# Altium footprint library PcbLib.PcbLib: 27 footprints (part 1 of 2)
Each footprint in its own frame and in the unit in brackets; x right, y up, seen from the top. Pads: shape width x height; smd on the part's side, far side on the other; paste and mask are expansions set on the pad; w line width, h text height; cw(c..) or ccw(c..) is an arc to the next point about the centre after c.
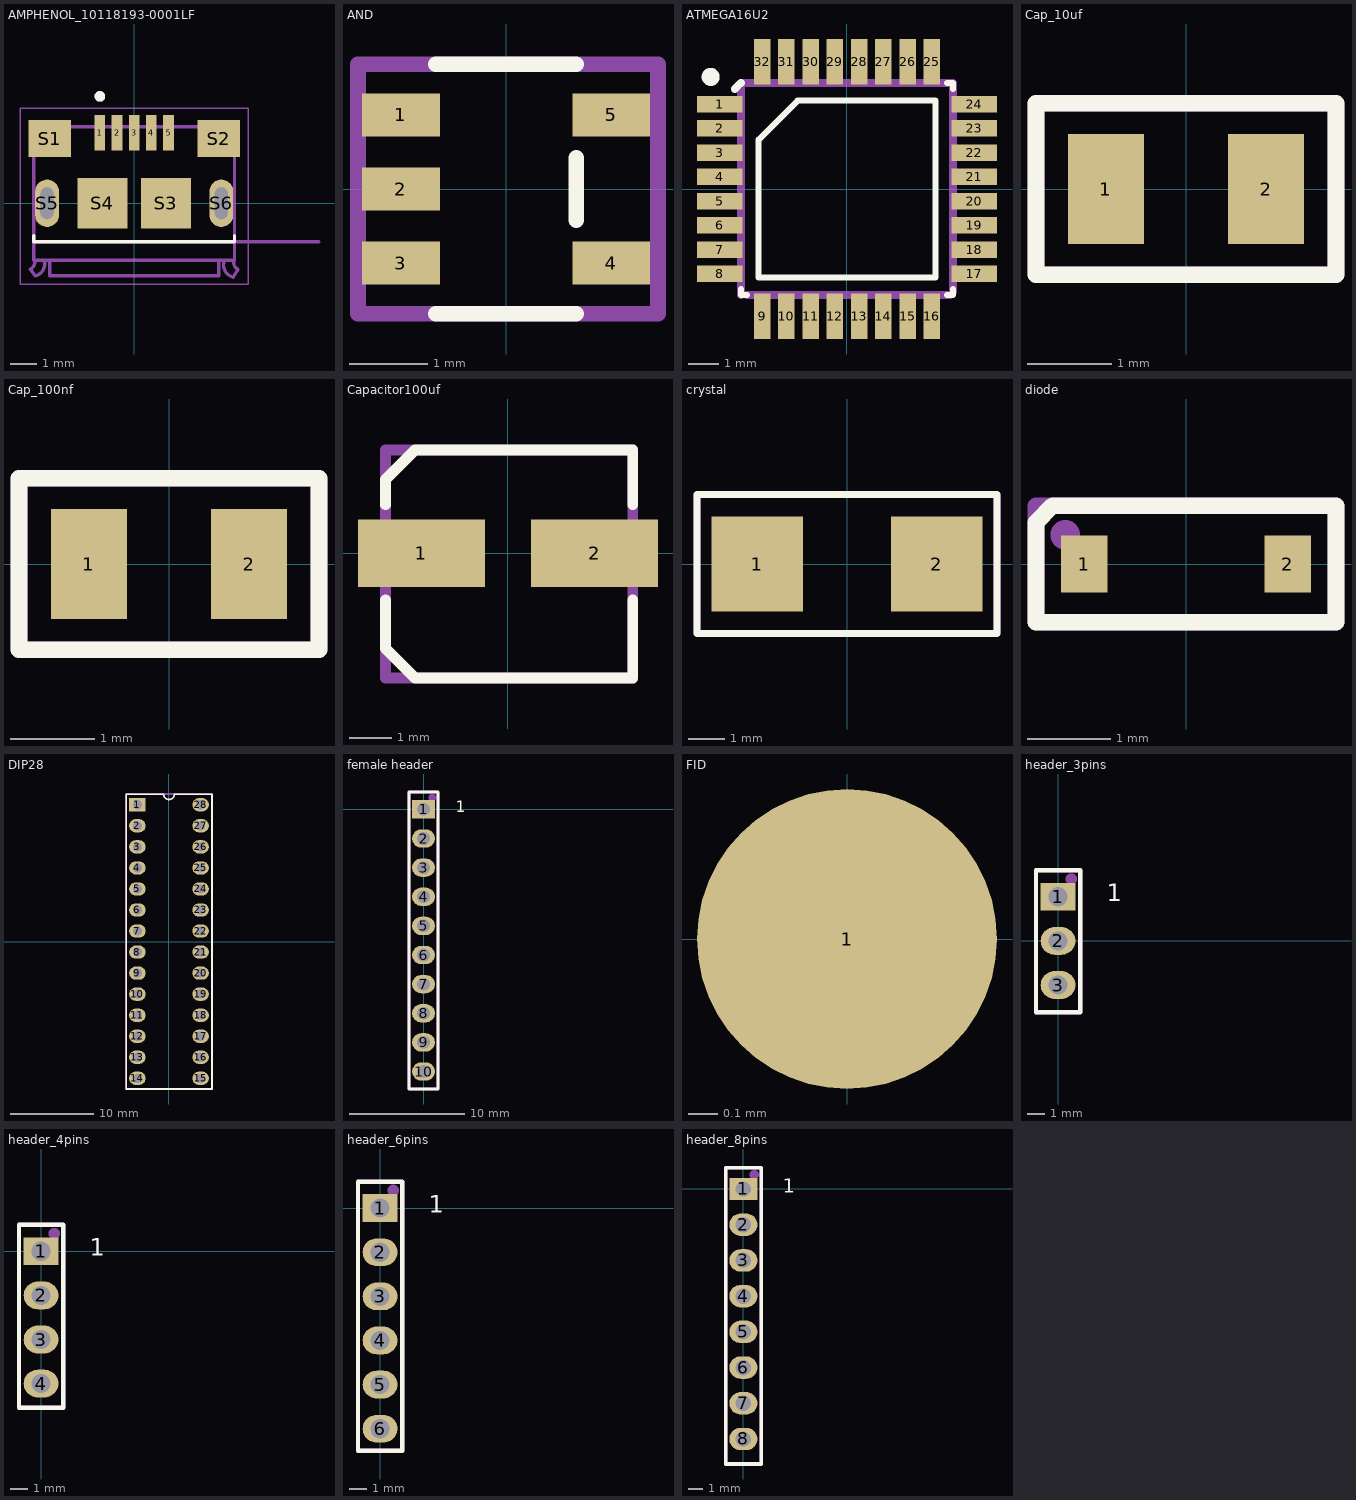
[diagram p0: the footprints below, top view; thin cyan lines are the x and y axes]

## AMPHENOL_10118193-0001LF [mm]
height 2.55
pads (11):
  rect 0.4x1.35 smd: 1(-1.3,2.675) 2(-0.65,2.675) 3(0,2.675) 4(0.65,2.675) 5(1.3,2.675)
  rect 1.6x1.4 smd: S1(-3.2,2.45) S2(3.2,2.45)
  rect 1.9x1.9 smd: S3(1.2,0) S4(-1.2,0)
  oval 0.9x1.8 hole 0.5 slot 1.2 at 90 deg: S5(-3.3,0) S6(3.3,0)
Top Overlay:
  circle w0.2: c-1.3,4.05 r0.1
  lines w0.127: -3.8,-1.22 -3.8,-1.45 3.8,-1.45 3.8,-1.22
Mechanical 13:
  circle w0.2: c-1.3,4.05 r0.1
  lines w0.127: -3.93,-2.5 -3.75,-2.75 ; -3.93,-2.5 ccw(c-4.065,-2.235) -3.8,-2.1 ; -3.8,-1.45 3.8,-1.45 ; -3.746,-2.749 ccw(c-3.85,-2.3) -3.401,-2.196 ; -3.2,-2.2 -3.2,-2.75 3.2,-2.75 3.2,-2.2 ; 3.401,-2.198 ccw(c3.875,-2.325) 3.748,-2.799 ; 3.75,-2.8 3.93,-2.5 ; 3.8,-2.1 ccw(c4.065,-2.235) 3.93,-2.5 ; 7,-1.45 3.8,-1.45 ; -3.8,-2.1 -3.8,2.9 3.8,2.9 3.8,-1.45 ; -3.8,-2.1 -3.8,-2.15 3.8,-2.15 3.8,-1.45
  text "PCB END" at 4.85,-1.2 h0.41
Mechanical 15:
  lines w0.05: -4.32,-3.066 4.32,-3.066 4.32,3.6 -4.32,3.6 -4.32,-3.066
3D body "step_temp.STEP": height 2.85, standoff -0.75, extent -3.93,-2.76 3.93,2.95

## AND [mm]
pads (5):
  rect 1x0.55 smd: 1(-1.35,0.95) 2(-1.35,0) 3(-1.35,-0.95) 4(1.35,-0.95) 5(1.35,0.95)
Top Overlay:
  lines w0.2: -0.9,-1.6 0.9,-1.6 ; -0.9,1.6 0.9,1.6 ; 0.9,-0.4 0.9,0.4
Mechanical 29:
  lines w0.2: -1.9,-1.6 -1.9,1.6 1.95,1.6 1.95,-1.6 -1.9,-1.6
  lines w0.254: -1.343,0.942 ccw(c-1.35,0.95) -1.34,0.95
3D body "SN74AHC1G09DBVR.STEP": height 1.4, standoff -0.05, extent -1.4,-1.45 1.4,1.45

## ATMEGA16U2 [mm]
pads (32):
  rect 1.5x0.55 smd mask+0.06: 1(-4.2,2.8) 2(-4.2,2) 3(-4.2,1.2) 4(-4.2,0.4) 5(-4.2,-0.4) 6(-4.2,-1.2) 7(-4.2,-2) 8(-4.2,-2.8) 17(4.2,-2.8) 18(4.2,-2) 19(4.2,-1.2) 20(4.2,-0.4) 21(4.2,0.4) 22(4.2,1.2) 23(4.2,2) 24(4.2,2.8)
  rect 0.55x1.5 smd mask+0.06: 9(-2.8,-4.2) 10(-2,-4.2) 11(-1.2,-4.2) 12(-0.4,-4.2) 13(0.4,-4.2) 14(1.2,-4.2) 15(2,-4.2) 16(2.8,-4.2) 25(2.8,4.2) 26(2,4.2) 27(1.2,4.2) 28(0.4,4.2) 29(-0.4,4.2) 30(-1.2,4.2) 31(-2,4.2) 32(-2.8,4.2)
Top Overlay:
  circle w0.35: c-4.5,3.7 r0.122
  lines w0.2: -3.5,-3.3 -3.5,-3.5 -3.3,-3.5 ; 3.3,-3.5 3.5,-3.5 3.5,-3.3 ; 3.3,3.5 3.5,3.5 3.5,3.3 ; -2.915,-2.915 2.915,-2.915 2.915,2.915 -1.63,2.915 -2.915,1.63 -2.915,-2.915
  lines w0.254: -3.7,3.3 -3.5,3.5
Mechanical 29:
  lines w0.254: -3.5,-3.5 -3.5,3.5 3.5,3.5 3.5,-3.4 3.4,-3.5 -3.3,-3.5
3D body "User Library-tqfp32.step": height 1.2, standoff 0, extent -4.539,-4.804 4.74,4.475

## Cap_10uf [mm]
pads (2):
  rect 0.9x1.3 smd: 1(-0.95,0) 2(0.95,0)
Top Overlay:
  lines w0.2: -1.778,-1.016 -1.778,1.016 1.778,1.016 1.778,-1.016 -1.778,-1.016
Mechanical 29:
  lines w0.2: -1.778,-1.016 -1.778,1.016 1.778,1.016 1.778,-1.016 -1.778,-1.016
3D body "C2012X5R1C106M125AC (1).STEP": height 1.25, standoff 0, extent -1.05,-0.625 0.95,0.625

## Cap_100nf [mm]
pads (2):
  rect 0.9x1.3 smd: 1(-0.95,0) 2(0.95,0)
Top Overlay:
  lines w0.2: -1.778,-1.016 -1.778,1.016 1.778,1.016 1.778,-1.016 -1.778,-1.016
Mechanical 29:
  lines w0.2: -1.778,-1.016 1.778,-1.016 1.778,1.016 -1.778,1.016 -1.778,-1.016
3D body "CAPC2012X94N EIA 0805.step": height 0.94, standoff 0, extent -1,-0.6 1,0.6

## Capacitor100uf [mm]
pads (2):
  rect 3x1.6 smd: 1(-2.05,0) 2(2.05,0)
Top Overlay:
  lines w0.254: -2.9,-1.1 -2.9,-2.25 -2.2,-2.95 2.95,-2.95 2.95,-1.1 ; -2.9,1.15 -2.9,1.75 -2.2,2.45 2.95,2.45 2.95,1.15
Mechanical 29:
  lines w0.254: -2.9,-2.95 -2.9,2.45 2.95,2.45 2.95,-2.95 -2.9,-2.95
3D body "EEE-1AA101WR.STEP": height 5.81, standoff 0.01, extent -3,-2.8 3,2.5

## crystal [mm]
pads (2):
  rect 2.5x2.6 smd: 1(-2.45,0) 2(2.45,0)
Top Overlay:
  lines w0.2: -4.1,-1.9 -4.1,1.9 4.1,1.9 4.1,-1.9 -4.1,-1.9
Mechanical 29:
  lines w0.2: -4.1,-1.9 -4.1,1.9 4.1,1.9 4.1,-1.9 -4.1,-1.9
3D body "ABM7-20.000MHZ-D2Y-T.STEP": height 1.41, standoff 0.01, extent -3.1,-1.8 2.9,1.7

## diode [mil]
pads (2):
  rect 22x27 smd: 1(-48,0) 2(48,0)
Top Overlay:
  lines w7.87: -70.87,-27.56 70.87,-27.56 70.87,27.56 -62.99,27.56 -70.87,19.68 -70.87,-27.56
Mechanical 29:
  circle w10: c-57.09,13.78 r1.97
  lines w7.87: -70.87,27.56 -70.87,-27.56 70.87,-27.56 70.87,27.56 -68.9,27.56
3D body "User Library-SOD323.step": height 37.4, standoff -1.57, extent -49.21,-24.61 49.21,24.61

## DIP28 [mm]
pads (28):
  rect 2x1.6 hole 1.1: 1(-3.81,16.51)
  oval 2x1.6 hole 1.1: 2(-3.81,13.97) 3(-3.81,11.43) 4(-3.81,8.89) 5(-3.81,6.35) 6(-3.81,3.81) 7(-3.81,1.27) 8(-3.81,-1.27) 9(-3.81,-3.81) 10(-3.81,-6.35) 11(-3.81,-8.89) 12(-3.81,-11.43) 13(-3.81,-13.97) 14(-3.81,-16.51) 15(3.81,-16.51) 16(3.81,-13.97) 17(3.81,-11.43) 18(3.81,-8.89) 19(3.81,-6.35) 20(3.81,-3.81) 21(3.81,-1.27) 22(3.81,1.27) 23(3.81,3.81) 24(3.81,6.35) 25(3.81,8.89) 26(3.81,11.43) 27(3.81,13.97) 28(3.81,16.51)
Top Overlay:
  lines w0.2: -5.175,-17.8 -5.175,17.78 -0.635,17.78 ccw(c0,17.78) 0.635,17.78 5.2,17.78 5.2,-17.8 -5.175,-17.8
Mechanical 29:
  circle w0.5: c-3.81,16.51 r0.25
  lines w0.254: -5.2,-17.8 -5.2,17.8 5.2,17.8 5.2,-17.7 5.1,-17.8 -5.2,-17.8
3D body "User Library-DIP-28P-M04.step": height 5.28, standoff -5.97, extent -3.97,-18.057 3.9,17.923

## dip_socket [mm]
3D body "dil_socket.stp": height 2.8, standoff -4.57, extent -1.367,-32.833 8.733,2.667

## female header [mm]
pads (10):
  rect 2x1.6 hole 1.1: 1(0,0)
  oval 2x1.6 hole 1.1: 2(0,-2.54) 3(0,-5.08) 4(0,-7.62) 5(0,-10.16) 6(0,-12.7) 7(0,-15.24) 8(0,-17.78) 9(0,-20.32) 10(0,-22.86)
Top Overlay:
  lines w0.254: -1.27,-24.384 -1.27,1.524 1.27,1.524 1.27,-24.384 -1.27,-24.384
  text "1" at 2.794,-0.254 h1
Mechanical 29:
  circle w0.508: c0.762,1.016 r0.076
  lines w0.254: -1.27,-24.384 -1.27,1.524 1.27,1.524 1.27,-24.384 -1.27,-24.384
3D body "m20-7821046.stp": height 8.49, standoff -3.18, extent -1.486,-24.33 2.007,1.47

## FID [mil]
pads (1):
  round 40 smd paste-40 mask+40: 1(0,0)

## header_3pins [mm]
pads (3):
  rect 2x1.6 hole 1.1: 1(0,2.54)
  oval 2x1.6 hole 1.1: 2(0,0) 3(0,-2.54)
Top Overlay:
  lines w0.254: -1.27,-4.1 1.27,-4.1 1.27,4.064 -1.27,4.064 -1.27,-4.1
  text "1" at 2.794,2.286 h1
Mechanical 29:
  circle w0.508: c0.762,3.556 r0.076
  lines w0.254: -1.27,-4.1 1.27,-4.1 1.27,4.064 -1.27,4.064 -1.27,-4.1
3D body "68000-x03.stp": height 8.28, standoff -2.52, extent -1.206,-3.81 1.206,3.81

## header_4pins [mm]
pads (4):
  rect 2x1.6 hole 1.1: 1(0,0)
  oval 2x1.6 hole 1.1: 2(0,-2.54) 3(0,-5.08) 4(0,-7.62)
Top Overlay:
  lines w0.254: -1.27,-9 1.27,-9 1.27,1.524 -1.27,1.524 -1.27,-9
  text "1" at 2.794,-0.254 h1
Mechanical 29:
  circle w0.508: c0.762,1.016 r0.076
  lines w0.254: -1.27,-9 -1.27,1.524 1.27,1.524 1.27,-9 -1.27,-9
3D body "68001-204HLF--3DModel-STEP-56544.STEP": height 8.19, standoff -3.24, extent -1.27,-8.818 1.14,1.342

## header_6pins [mm]
pads (6):
  rect 2x1.6 hole 1.1: 1(0,0)
  oval 2x1.6 hole 1.1: 2(0,-2.54) 3(0,-5.08) 4(0,-7.62) 5(0,-10.16) 6(0,-12.7)
Top Overlay:
  lines w0.254: -1.27,-13.97 -1.27,1.524 1.27,1.524 1.27,-13.97 -1.27,-13.97
  text "1" at 2.794,-0.254 h1
Mechanical 29:
  circle w0.508: c0.762,1.016 r0.076
  lines w0.254: -1.27,-13.97 -1.27,1.524 1.27,1.524 1.27,-13.97 -1.27,-13.97
3D body "m20-7820646.stp": height 8.31, standoff -3.19, extent -1.27,-14.043 1.23,1.597

## header_8pins [mm]
pads (8):
  rect 2x1.6 hole 1.1: 1(0,0)
  oval 2x1.6 hole 1.1: 2(0,-2.54) 3(0,-5.08) 4(0,-7.62) 5(0,-10.16) 6(0,-12.7) 7(0,-15.24) 8(0,-17.78)
Top Overlay:
  lines w0.254: -1.27,-19.558 -1.27,1.524 1.27,1.524 1.27,-19.558 -1.27,-19.558
  text "1" at 2.794,-0.254 h1
Mechanical 29:
  circle w0.508: c0.762,1.016 r0.076
  lines w0.254: -1.27,-19.558 -1.27,1.524 1.27,1.524 1.27,-19.558 -1.27,-19.558
3D body "M20-7820842.STEP": height 8.31, standoff -3.19, extent -1.27,-18.742 1.23,1.978